# Altium schematic symbol library ADP7158ARDZ-3.3-R7.SchLib: 1 symbol
Pins are listed as number, name and electrical type; pins without a type are passive.

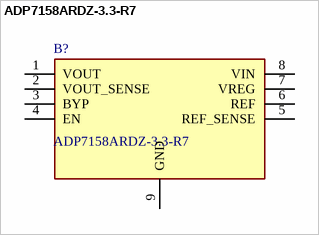
[diagram p0: symbol ADP7158ARDZ-3.3-R7]

## ADP7158ARDZ-3.3-R7
designator B?
LDO Voltage Regulators 3.3/5Vin 1.2A Ultra Low Noise LDO Fixed; Manufacturer_Name: Analog Devices; Geometry.Height: 1.75mm; Manufacturer_Part_Number: ADP7158ARDZ-3.3-R7; Mouser Part Number: 584-ADP7158ARDZ3.3R7; Mouser Price/Stock: https://www.mouser.co.uk/ProductDetail/Analog-Devices/ADP7158ARDZ-3.3-R7?qs=JeIcUl65ClBbLSN64Y7owQ%3D%3D; Arrow Part Number: ADP7158ARDZ-3.3-R7; Arrow Price/Stock: https://www.arrow.com/en/products/adp7158ardz-3.3-r7/analog-devices?utm_currency=USD&region=nac; Datasheet Link: https://componentsearchengine.com/Datasheets/1/ADP7158ARDZ-3.3-R7.pdf
footprint SOIC127P600X175-9N
pins: 1 VOUT, 2 VOUT_SENSE, 3 BYP, 4 EN, 5 REF_SENSE, 6 REF, 7 VREG, 8 VIN (power), 9 GND